# Altium schematic symbol library FerroAudioAmp.SchLib: 12 symbols
Pins are listed as number, name and electrical type; pins without a type are passive.

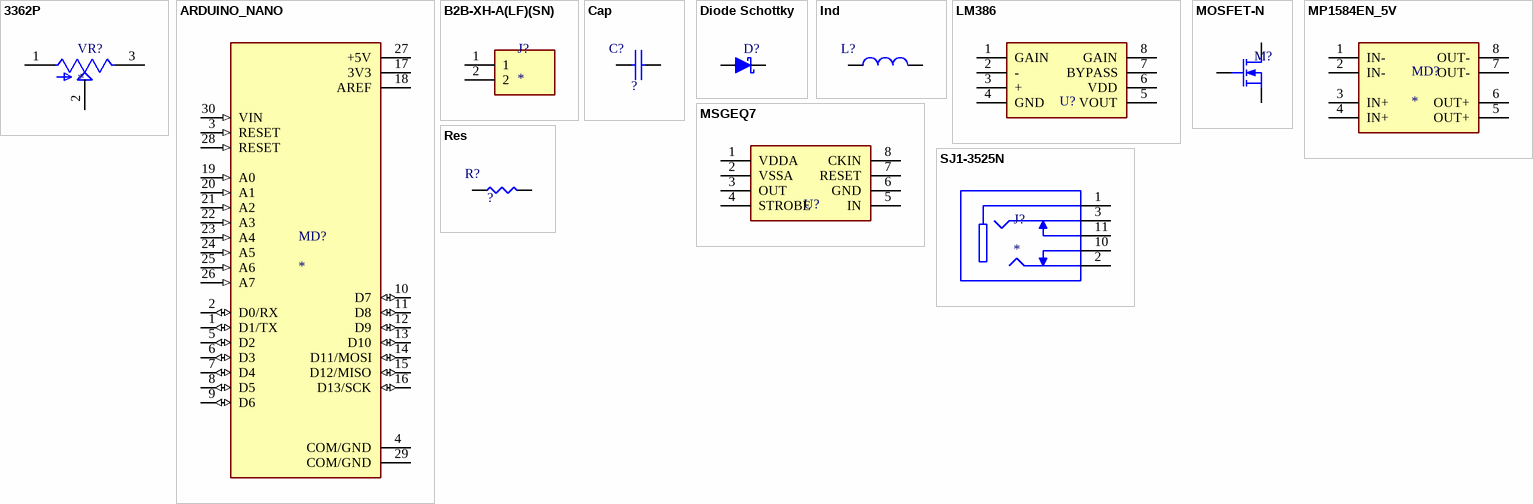
[diagram p0: symbols 3362P to SJ1-3525N]

## 3362P
designator VR?
PC Pins Through Hole Trimmer Potentiometer Cermet 1 Turn Top Adjustment; MF: Bourns; MP: 3362P-1-103LF; Check_prices: https://www.snapeda.com/parts/3362P-1-103LF/Bourns/view-part/13764/?ref=eda; Digi-Key_Part_Number: 3362P-103LF-ND; Value: *; Package: 3116 Bourns; SnapEDA_Link: https://www.snapeda.com/parts/3362P-1-103LF/Bourns/view-part/13764/?ref=snap; Purchase-URL: https://pricing.snapeda.com/search/part/3362P-1-103LF/?ref=eda
footprint TRIM_3362P
pins: 1 CCW, 2 WIPER, 3 CW

## ARDUINO_NANO
designator MD?
ATSAMD21G18A Arduino Nano 33 IoT SAM D ARMÂ® CortexÂ®-M0+ MCU 32-Bit Embedded Evaluation Board; MP: ARDUINO NANO; Package: None; Price: None; Availability: Unavailable; Value: *; MF: Arduino; SnapEDA_Link: https://www.snapeda.com/parts/ARDUINO%20NANO/Arduino/view-part/1128261/?ref=snap
footprint SHIELD_ARDUINO_NANO
pins: 1 D1/TX (io), 2 D0/RX (io), 3 RESET (in), 4 COM/GND (power), 5 D2 (io), 6 D3 (io), 7 D4 (io), 8 D5 (io), 9 D6 (io), 10 D7 (io), 11 D8 (io), 12 D9 (io), 13 D10 (io), 14 D11/MOSI (io), 15 D12/MISO (io), 16 D13/SCK (io), 17 3V3 (power), 18 AREF (power), 19 A0 (in), 20 A1 (in), 21 A2 (in), 22 A3 (in), 23 A4 (in), 24 A5 (in), 25 A6 (in), 26 A7 (in), 27 +5V (power), 28 RESET (in), 29 COM/GND (power), 30 VIN (in)

## B2B-XH-A(LF)(SN)
designator J?
Connector Header Through Hole 2 position 0.098 (2.50mm); MF: JST Sales; MP: B2B-XH-A(LF)(SN); Value: *; Check_prices: https://www.snapeda.com/parts/B2B-XH-A(LF)(SN)/JST%20Sales%20America%20Inc./view-part/492310/?ref=eda; Price: None; Package: None; Availability: In Stock; SnapEDA_Link: https://www.snapeda.com/parts/B2B-XH-A(LF)(SN)/JST%20Sales%20America%20Inc./view-part/492310/?ref=snap
footprint JST_B2B-XH-A(LF)(SN)
pins: 1, 2

## Cap
designator C?, comment ?
value: ?
footprint 0402 (Body 1.0x0.5mm)
footprint 0603 (Body 1.6x0.8mm)
footprint 0805 (Body 2.0x1.2mm)
footprint 1210 (Body 3.2x2.5mm)
pins: 1, 2

## Diode Schottky
designator D?, comment RB521S30T1G  (value not drawn)
Diode Schottky 30V 200mA (DC) Surface Mount SOD-523
footprint SOD523
pins: A, C

## Ind
designator L?
footprint 0402 (Body 1.0x0.5mm)
footprint 0603 (Body 1.6x0.8mm)
footprint 0805 (Body 2.0x1.2mm)
footprint 1210 (Body 3.2x2.5mm)
pins: 1, 2

## LM386
designator U?  (value not drawn)
Low Voltage Audio Power Amplifier
footprint MSGEQ7 (Seven Band Graphic Equalizer)
pins: 1 GAIN, 2 -, 3 +, 4 GND, 5 VOUT, 6 VDD, 7 BYPASS, 8 GAIN

## MOSFET-N
designator M?, comment DMN2056U-7  (value not drawn)
N-Channel 20V 4A (Ta) 940mW Surface Mount SOT-23-3
footprint SOT23_L (SOT23, 3-Leads, Body 2.9x1.3mm, Pitch 0.95mm, Lead Span 2.3mm - Reverse Pinning, IPC High Density)
pins: 1 D, 2 S, 3 G

## MP1584EN_5V
designator MD?
DC-DC 6.5-28V in 5V out module
footprint MP1584EN_5V
pins: 1 IN-, 2 IN-, 3 IN+, 4 IN+, 5 OUT+, 6 OUT+, 7 OUT-, 8 OUT-

## MSGEQ7
designator U?  (value not drawn)
Seven Band Graphic Equalizer
footprint MSGEQ7 (Seven Band Graphic Equalizer)
pins: 1 VDDA, 2 VSSA, 3 OUT, 4 STROBE, 5 IN, 6 GND, 7 RESET, 8 CKIN

## Res
designator R?, comment ?
value: ?
footprint 0402 (Body 1.0x0.5mm)
footprint 0603 (Body 1.6x0.8mm)
footprint 0805 (Body 2.0x1.2mm)
footprint 1210 (Body 3.2x2.5mm)
pins: 1, 2

## SJ1-3525N
designator J?
3.5 mm, Stereo, Right Angle, Through Hole, Audio Jack Connector; MF: CUI Devices; MP: SJ1-3525N; Package: None; Price: None; Availability: Unavailable; CUI_purchase_URL: https://www.cuidevices.com/product/interconnect/connectors/audio-connectors/jacks/sj1-352xn-series?utm_source=snapeda.com&utm_medium=referral&utm_campaign=snapedaBOM; SnapEDA_Link: https://www.snapeda.com/parts/SJ1-3525N/CUI%20Devices/view-part/231506/?ref=snap; Value: *
footprint CUI_SJ1-3525N
pins: 1, 2, 3, 10, 11